# Altium footprint library 435151014845.PcbLib: 1 footprints
Each footprint in its own frame and in the unit in brackets; x right, y up, seen from the top. Pads: shape width x height; smd on the part's side, far side on the other; paste and mask are expansions set on the pad; w line width, h text height; cw(c..) or ccw(c..) is an arc to the next point about the centre after c.
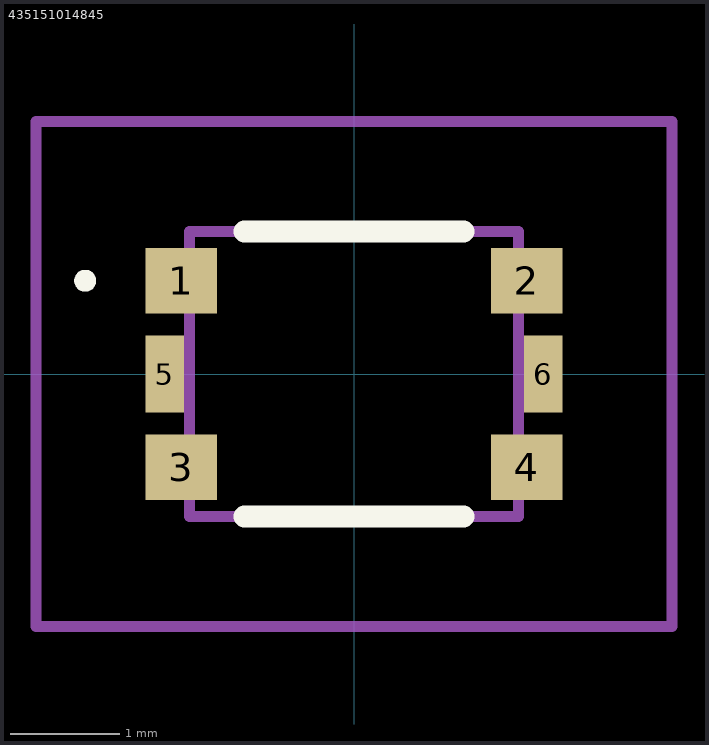
[diagram p0: the footprint, top view; thin cyan lines are the x and y axes]

## 435151014845 [mm]
pads (6):
  rect 0.65x0.6 smd: 1(-1.575,0.85) 2(1.575,0.85) 3(-1.575,-0.85) 4(1.575,-0.85)
  rect 0.35x0.7 smd: 5(-1.725,0) 6(1.725,0)
Top Overlay:
  lines w0.1: -2.5,0.85 ccw(c-2.45,0.85) -2.4,0.85 ccw(c-2.45,0.85) -2.5,0.85
  lines w0.2: -1,-1.3 1,-1.3 ; -1,1.3 1,1.3
Mechanical 15:
  lines w0.1: -1.5,-1.3 -1.5,1.3 1.5,1.3 1.5,-1.3 -1.5,-1.3
Mechanical 20:
  lines w0.1: -2.9,-2.3 -2.9,2.3 2.9,2.3 2.9,-2.3 -2.9,-2.3
3D body "435151014845.stp": height 1.37, standoff -0.04, extent -1.75,-1.3 1.75,1.3